# EAGLE library part 74*844 (library 74xx-eu)
9-bit inverting bus interface LATCH
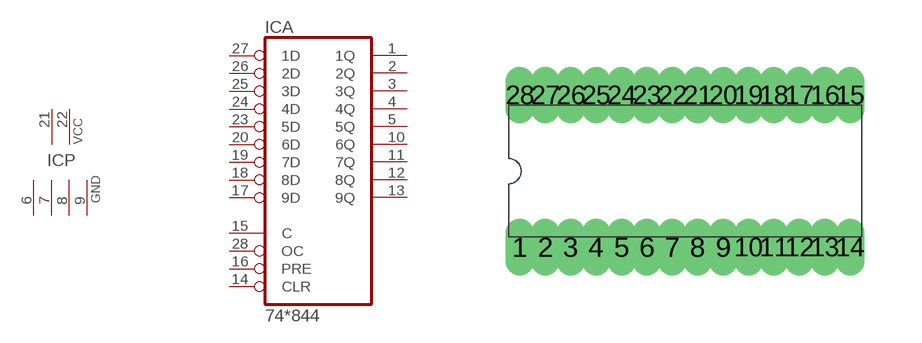
[diagram p307: symbol with the pads of DIL28-6; footprint DIL28-6]

Designator prefix IC; gates A=74844 P=2PWR4GND

## 74844NT, 74ALS844NT, 74AS844NT  [DIL28-6]
1  A:1Q  hiz
2  A:2Q  hiz
3  A:3Q  hiz
4  A:4Q  hiz
5  A:5Q  hiz
6  P:GND  pwr
7  P:GND  pwr
8  P:GND  pwr
9  P:GND  pwr
10  A:6Q  hiz
11  A:7Q  hiz
12  A:8Q  hiz
13  A:9Q  hiz
14  A:CLR  in
15  A:C  in
16  A:PRE  in
17  A:9D  in
18  A:8D  in
19  A:7D  in
20  A:6D  in
21  P:VCC  pwr
22  P:VCC  pwr
23  A:5D  in
24  A:4D  in
25  A:3D  in
26  A:2D  in
27  A:1D  in
28  A:OC  in

## Footprint DIL28-6 (pad centres in mm)
Dual In Line Package 0.6 inch
drill 0.203 long: 1 -4.128,-1.905; 2 -3.493,-1.905; 3 -2.857,-1.905; 4 -2.223,-1.905; 5 -1.587,-1.905; 6 -0.953,-1.905; 7 -0.318,-1.905; 8 0.318,-1.905; 9 0.953,-1.905; 10 1.587,-1.905; 11 2.223,-1.905; 12 2.857,-1.905; 13 3.493,-1.905; 14 4.128,-1.905; 15 4.128,1.905; 16 3.493,1.905; 17 2.857,1.905; 18 2.223,1.905; 19 1.587,1.905; 20 0.953,1.905; 21 0.318,1.905; 22 -0.318,1.905; 23 -0.953,1.905; 24 -1.587,1.905; 25 -2.223,1.905; 26 -2.857,1.905; 27 -3.493,1.905; 28 -4.128,1.905